# Altium integrated library 1N4148TR.IntLib: 1 symbol
Pins are listed as number, name and electrical type; pins without a type are passive.

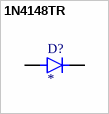
[diagram p0: symbol 1N4148TR]

## 1N4148TR
designator D?
MF: {'manufacturer': u'onsemi'}; MP: 1N4148TR; Package: None; Price: None; Value: *; Availability: Unavailable
footprint DIOAD753W49L380D172B
pins: A, K